# Altium footprint library SON50P160X120X60-5N-D.PcbLib: 1 footprints
Each footprint in its own frame and in the unit in brackets; x right, y up, seen from the top. Pads: shape width x height; smd on the part's side, far side on the other; paste and mask are expansions set on the pad; w line width, h text height; cw(c..) or ccw(c..) is an arc to the next point about the centre after c.
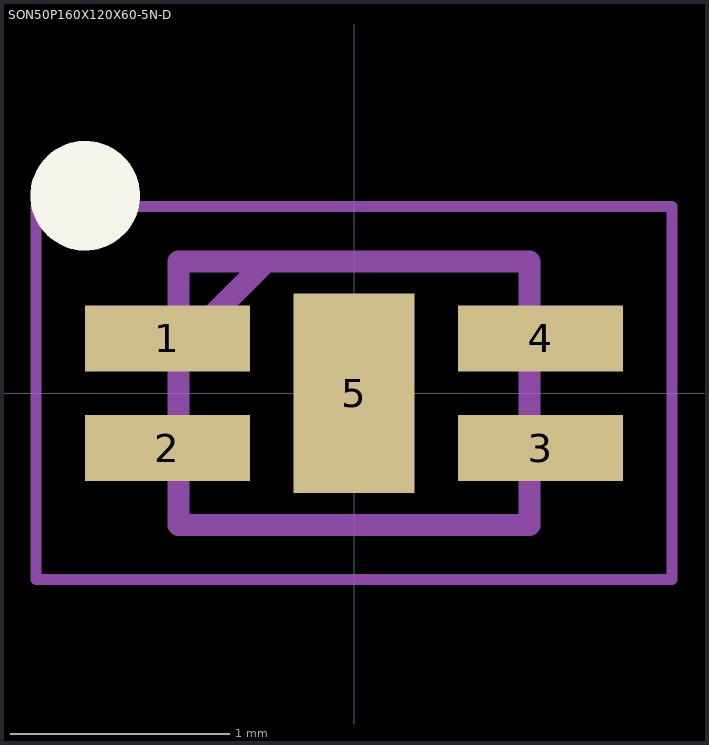
[diagram p0: the footprint, top view; thin cyan lines are the x and y axes]

## SON50P160X120X60-5N-D [mm]
pads (5):
  rect 0.75x0.3 smd: 1(-0.85,0.25) 2(-0.85,-0.25) 3(0.85,-0.25) 4(0.85,0.25)
  rect 0.55x0.91 smd: 5(0,0)
Top Overlay:
  circle w0.25: c-1.225,0.9 r0.125
Mechanical 15:
  lines w0.1: -0.8,0.2 -0.4,0.6 ; -0.8,-0.6 0.8,-0.6 0.8,0.6 -0.8,0.6 -0.8,-0.6
Mechanical 20:
  lines w0.05: -1.45,-0.85 1.45,-0.85 1.45,0.85 -1.45,0.85 -1.45,-0.85